# EAGLE library part AS-ITM-00104 (library tinycircuits)
CONN TERM BLK 6POS 2.54MM R/A BK
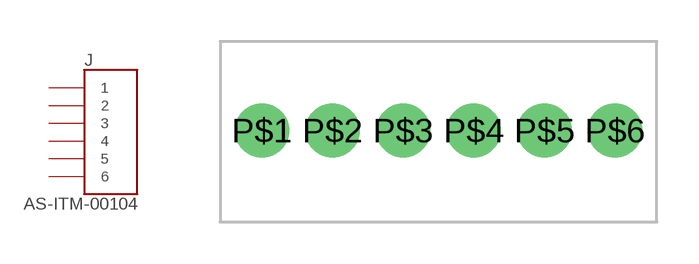
[diagram p45: symbol with the pads of 6POS_2.54MM_TERMBLOCK; footprint 6POS_2.54MM_TERMBLOCK]

Designator prefix J

## AS-ITM-00104 (PARTNO: AS-ITM-00104; VALUE: ESDM06100)  [6POS_2.54MM_TERMBLOCK]
P$1  1
P$2  2
P$3  3
P$4  4
P$5  5
P$6  6

## Footprint 6POS_2.54MM_TERMBLOCK (pad centres in mm)
drill 1.3: P$1 -6.3,-0.1; P$2 -3.76,-0.1; P$3 -1.22,-0.1; P$4 1.32,-0.1; P$5 3.86,-0.1; P$6 6.4,-0.1